# EAGLE library part 5035663502/HDD (library iPodConnectors)
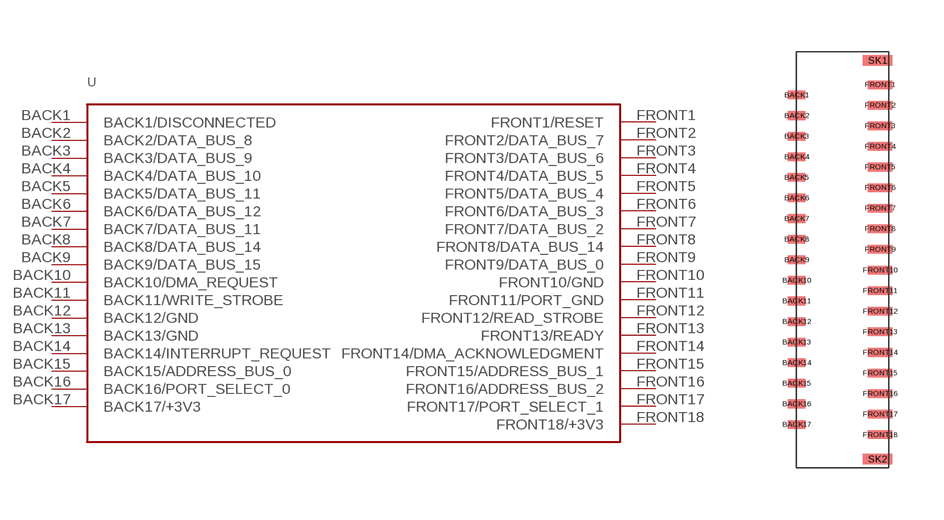
[diagram p0: symbol with the pads of 5035663502; footprint 5035663502]

Designator prefix -

## 5035663502/HDD  [5035663502]
BACK1  BACK1/DISCONNECTED
BACK2  BACK2/DATA_BUS_8
BACK3  BACK3/DATA_BUS_9
BACK4  BACK4/DATA_BUS_10
BACK5  BACK5/DATA_BUS_11
BACK6  BACK6/DATA_BUS_12
BACK7  BACK7/DATA_BUS_11
BACK8  BACK8/DATA_BUS_14
BACK9  BACK9/DATA_BUS_15
BACK10  BACK10/DMA_REQUEST
BACK11  BACK11/WRITE_STROBE
BACK12  BACK12/GND
BACK13  BACK13/GND
BACK14  BACK14/INTERRUPT_REQUEST
BACK15  BACK15/ADDRESS_BUS_0
BACK16  BACK16/PORT_SELECT_0
BACK17  BACK17/+3V3
FRONT1  FRONT1/RESET
FRONT2  FRONT2/DATA_BUS_7
FRONT3  FRONT3/DATA_BUS_6
FRONT4  FRONT4/DATA_BUS_5
FRONT5  FRONT5/DATA_BUS_4
FRONT6  FRONT6/DATA_BUS_3
FRONT7  FRONT7/DATA_BUS_2
FRONT8  FRONT8/DATA_BUS_14
FRONT9  FRONT9/DATA_BUS_0
FRONT10  FRONT10/GND
FRONT11  FRONT11/PORT_GND
FRONT12  FRONT12/READ_STROBE
FRONT13  FRONT13/READY
FRONT14  FRONT14/DMA_ACKNOWLEDGMENT
FRONT15  FRONT15/ADDRESS_BUS_1
FRONT16  FRONT16/ADDRESS_BUS_2
FRONT17  FRONT17/PORT_SELECT_1
FRONT18  FRONT18/+3V3

## Footprint 5035663502 (pad centres in mm)
smd 0.52 x 0.25: BACK1 -1.27,5.08; BACK2 -1.27,4.48; BACK3 -1.27,3.88; BACK4 -1.27,3.28; BACK5 -1.27,2.68; BACK6 -1.27,2.08; BACK7 -1.27,1.48; BACK8 -1.27,0.88; BACK9 -1.27,0.28; BACK10 -1.27,-0.32; BACK11 -1.27,-0.92; BACK12 -1.27,-1.52; BACK13 -1.27,-2.12; BACK14 -1.27,-2.72; BACK15 -1.27,-3.32; BACK16 -1.27,-3.92; BACK17 -1.27,-4.52
smd 0.72 x 0.25: FRONT1 1.16,5.38; FRONT2 1.16,4.78; FRONT3 1.16,4.18; FRONT4 1.16,3.58; FRONT5 1.16,2.98; FRONT6 1.16,2.38; FRONT7 1.16,1.78; FRONT8 1.16,1.18; FRONT9 1.16,0.58; FRONT10 1.16,-0.02; FRONT11 1.16,-0.62; FRONT12 1.16,-1.22; FRONT13 1.16,-1.82; FRONT14 1.16,-2.42; FRONT15 1.16,-3.02; FRONT16 1.16,-3.62; FRONT17 1.16,-4.22; FRONT18 1.16,-4.82
smd 0.85 x 0.3: SK1 1.09,6.09; SK2 1.09,-5.53